# EAGLE library part MSP430 (library ee40_robot)
MSP430-G2553 Microcontroller PinOuts
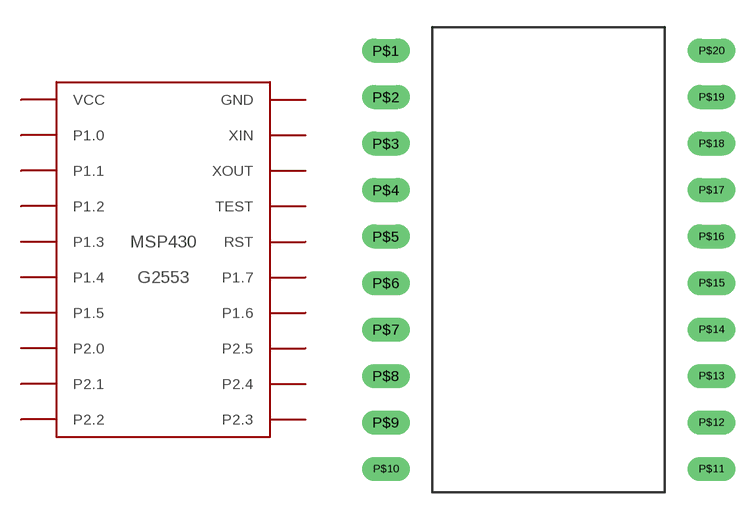
[diagram p0: symbol with the pads of MSP430; footprint MSP430]

Designator prefix -

## MSP430  [MSP430]
P$1  VCC
P$2  P1.0
P$3  P1.1
P$4  P1.2
P$5  P1.3
P$6  P1.4
P$7  P1.5
P$8  P2.0
P$9  P2.1
P$10  P2.2
P$11  P2.3
P$12  P2.4
P$13  P2.5
P$14  P1.6
P$15  P1.7
P$16  RST
P$17  TEST
P$18  XOUT
P$19  XIN
P$20  GND

## Footprint MSP430 (pad centres in mm)
MSP430 Package (Cause EAGLE IS DUMB)
drill 0.8 long: P$1 -8.89,11.43; P$2 -8.89,8.89; P$3 -8.89,6.35; P$4 -8.89,3.81; P$5 -8.89,1.27; P$6 -8.89,-1.27; P$7 -8.89,-3.81; P$8 -8.89,-6.35; P$9 -8.89,-8.89; P$10 -8.89,-11.43; P$11 8.89,-11.43; P$12 8.89,-8.89; P$13 8.89,-6.35; P$14 8.89,-3.81; P$15 8.89,-1.27; P$16 8.89,1.27; P$17 8.89,3.81; P$18 8.89,6.35; P$19 8.89,8.89; P$20 8.89,11.43